# EAGLE library part FT232RL (library robots)
FTDL FT232RL
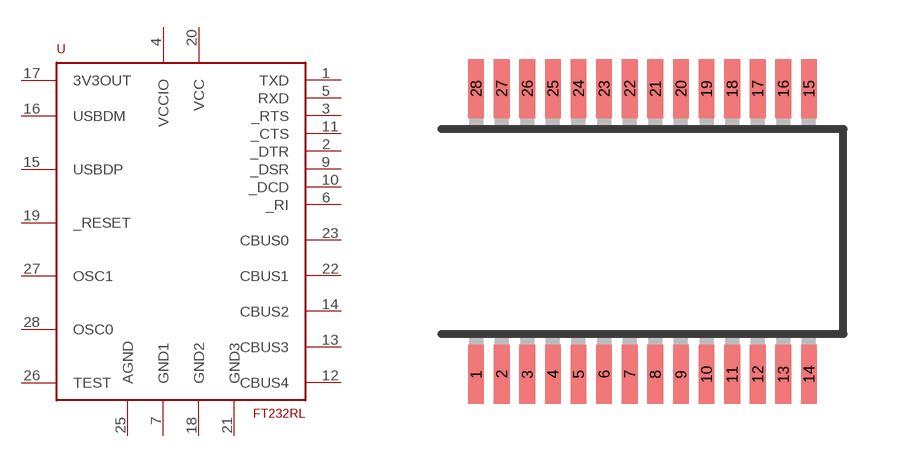
[diagram p2: symbol with the pads of SSOP28; footprint SSOP28]

Designator prefix -

## FT232RL  [SSOP28]
1  TXD
2  _DTR
3  _RTS
4  VCCIO
5  RXD
6  _RI
7  GND1
9  _DSR
10  _DCD
11  _CTS
12  CBUS4
13  CBUS3
14  CBUS2
15  USBDP
16  USBDM
17  3V3OUT
18  GND2
19  _RESET
20  VCC
21  GND3
22  CBUS1
23  CBUS0
25  AGND
26  TEST
27  OSC1
28  OSC0

## Footprint SSOP28 (pad centres in mm)
smd 0.4 x 1.5: 1 -4.225,-3.625; 2 -3.575,-3.625; 3 -2.925,-3.625; 4 -2.275,-3.625; 5 -1.625,-3.625; 6 -0.975,-3.625; 7 -0.325,-3.625; 8 0.325,-3.625; 9 0.975,-3.625; 10 1.625,-3.625; 11 2.275,-3.625; 12 2.925,-3.625; 13 3.575,-3.625; 14 4.225,-3.625; 15 4.225,3.625; 16 3.575,3.625; 17 2.925,3.625; 18 2.275,3.625; 19 1.625,3.625; 20 0.975,3.625; 21 0.325,3.625; 22 -0.325,3.625; 23 -0.975,3.625; 24 -1.625,3.625; 25 -2.275,3.625; 26 -2.925,3.625; 27 -3.575,3.625; 28 -4.225,3.625